# Altium footprint library CAP_TH_10X14_L5.PcbLib: 2 footprints
Each footprint in its own frame and in the unit in brackets; x right, y up, seen from the top. Pads: shape width x height; smd on the part's side, far side on the other; paste and mask are expansions set on the pad; w line width, h text height; cw(c..) or ccw(c..) is an arc to the next point about the centre after c.
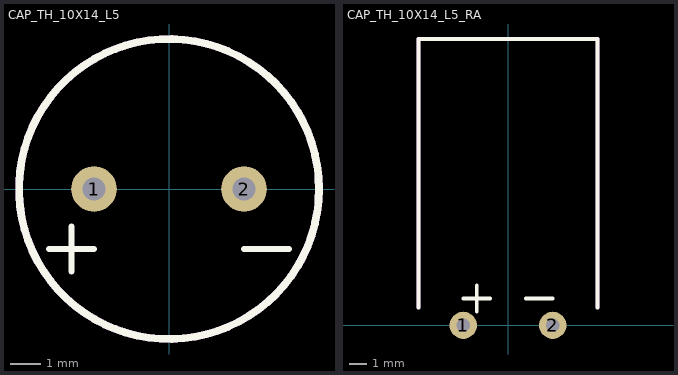
[diagram p0: the footprints below, top view; thin cyan lines are the x and y axes]

## CAP_TH_10X14_L5 [mil] "Cap, Aluminum Electrolytic, 5mm Lead Spacing, 14mm Height, Vertical Mount"
height 551.18
pads (2):
  round 60 hole 30: 1(-98.43,0) 2(98.43,0)
Top Overlay:
  circle w10: c0,0 r196.85
  lines w7.87: -157.48,-78.74 -98.43,-78.74 ; -127.95,-108.27 -127.95,-49.21 ; 98.43,-78.74 157.48,-78.74
Assembly-Top:
  circle w10: c0,0 r196.85
  text ".Designator" at -59.06,9.84 h60
3D body: height 551.18, standoff 0, extent -196.85,-196.85 196.85,196.85

## CAP_TH_10X14_L5_RA [mil] "Cap, Aluminum Electrolytic, 5mm Lead Spacing, 14mm Height, Right Angle Mount"
height 236.22
pads (2):
  round 60 hole 30: 1(-98.43,0) 2(98.43,0)
Top Overlay:
  lines w7.87: -196.85,39.37 -196.85,629.92 196.85,629.92 196.85,39.37 ; -98.43,59.06 -39.37,59.06 ; -68.9,29.53 -68.9,88.58 ; 39.37,59.06 98.43,59.06
Assembly-Top:
  lines w7.87: -196.85,39.37 -196.85,629.92 196.85,629.92 196.85,39.37
  text ".Designator" at -19.68,452.76 h60
3D body: height 393.7, standoff 0, extent -196.85,78.74 196.85,629.92